# Altium footprint library PcbLib1.PcbLib: 1 footprints
Each footprint in its own frame and in the unit in brackets; x right, y up, seen from the top. Pads: shape width x height; smd on the part's side, far side on the other; paste and mask are expansions set on the pad; w line width, h text height; cw(c..) or ccw(c..) is an arc to the next point about the centre after c.
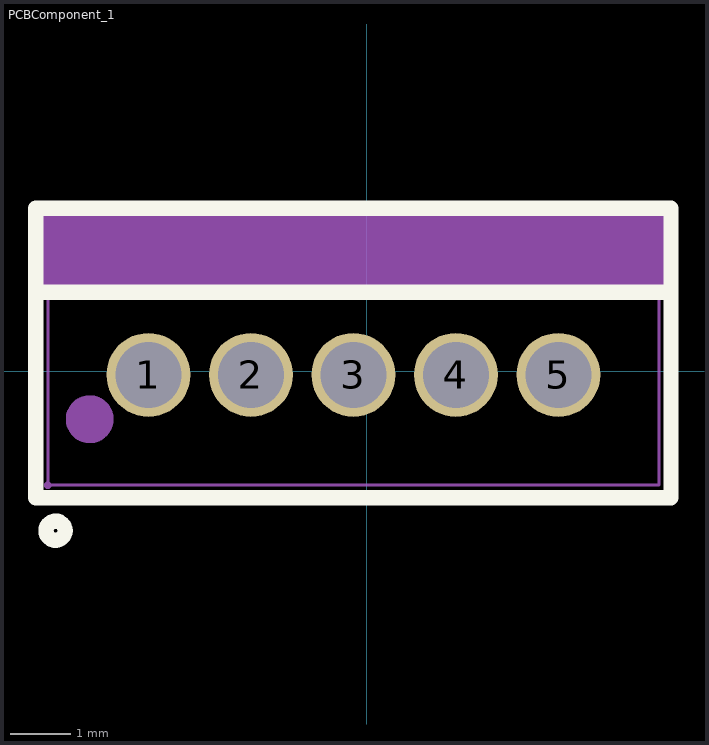
[diagram p0: the footprint, top view; thin cyan lines are the x and y axes]

## PCBComponent_1 [mm]
pads (5):
  round 1.4 hole 1.1 paste+0 mask+0.051: 1(-3.642,-0.059) 2(-1.931,-0.059) 3(-0.222,-0.059) 4(1.488,-0.059) 5(3.199,-0.059)
Top Overlay:
  circle w0.254: c-5.192,-2.659 r0.16
  lines w0.258: -5.522,1.321 5.078,1.321 ; -5.522,-2.109 -5.522,2.721 5.078,2.721 5.078,-2.109 -5.522,-2.109
Mechanical 6:
  circle w0.4: c-4.622,-0.799 r0.2
  region: -5.462,2.731 5.078,2.731 5.088,2.721 5.088,1.371 5.098,1.361 -5.462,1.361 -5.472,1.351
Mechanical 15:
  region: -3.197,-0.309 -4.087,-0.309 -4.087,0.191 -3.197,0.191
  region: -1.487,-0.309 -2.377,-0.309 -2.377,0.191 -1.487,0.191
  region: 0.223,-0.309 -0.667,-0.309 -0.667,0.191 0.223,0.191
  region: 1.933,-0.309 1.043,-0.309 1.043,0.191 1.933,0.191
  region: 3.643,-0.309 2.753,-0.309 2.753,0.191 3.643,0.191
  region: -5.262,-1.899 -5.262,-1.874 -5.297,-1.839 -5.347,-1.839 -5.382,-1.874 -5.382,-1.899 -5.382,-1.924 -5.347,-1.959 -5.297,-1.959 -5.262,-1.924 -5.262,-1.899
  lines w0.051: -5.322,-1.899 -5.322,2.601 4.878,2.601 4.878,-1.899 -5.322,-1.899